# EAGLE library part ED555/7DS (library myLib)
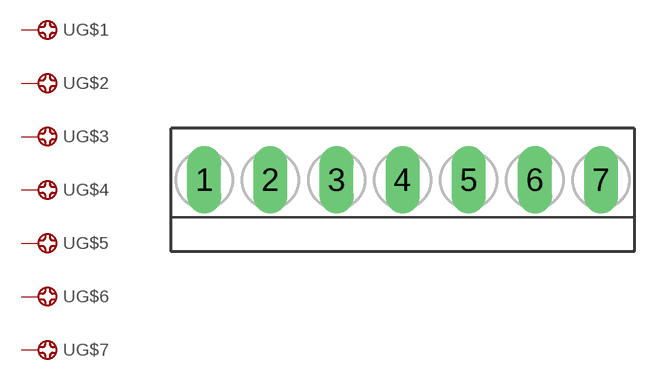
[diagram p11: symbol with the pads of ED555/7DS; footprint ED555/7DS]

Designator prefix -; gates G$1=CONNECT G$2=CONNECT G$3=CONNECT G$4=CONNECT G$5=CONNECT G$6=CONNECT G$7=CONNECT

## ED555/7DS  [ED555/7DS]
1  G$1:1  pas
2  G$2:1  pas
3  G$3:1  pas
4  G$4:1  pas
5  G$5:1  pas
6  G$6:1  pas
7  G$7:1  pas

## Footprint ED555/7DS (pad centres in mm)
drill 1.194 long: 1 -10.5,-0.02; 2 -7,-0.02; 3 -3.5,-0.02; 4 0,-0.02; 5 3.5,-0.02; 6 7,-0.02; 7 10.5,-0.02